# Altium schematic symbol library DEA162450BT-2096A1-H.SchLib: 1 symbol
Pins are listed as number, name and electrical type; pins without a type are passive.

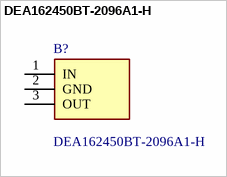
[diagram p0: symbol DEA162450BT-2096A1-H]

## DEA162450BT-2096A1-H
designator B?
Filters, Pass Band=2400 to 2500MHz, Zc=50se | 50se; Manufacturer_Name: TDK; Geometry.Height: 0.6mm; Mouser Part Number: 810-DEA16245BT296A1H; Mouser Price/Stock: https://www.mouser.co.uk/ProductDetail/TDK/DEA162450BT-2096A1-H?qs=aJlLJN71rdlgsK0licESrA%3D%3D; Manufacturer_Part_Number: DEA162450BT-2096A1-H; Datasheet Link: https://product.tdk.com/system/files/dam/doc/product/rf/rf/filter/catalog/rf_bpf_dea162450bt-2096a1-h_en.pdf
footprint DEA162450BT2096A1H
pins: 1 IN, 2 GND, 3 OUT